# Altium footprint library Robot_2020.PcbLib: 89 footprints (part 4 of 6)
Each footprint in its own frame and in the unit in brackets; x right, y up, seen from the top. Pads: shape width x height; smd on the part's side, far side on the other; paste and mask are expansions set on the pad; w line width, h text height; cw(c..) or ccw(c..) is an arc to the next point about the centre after c.
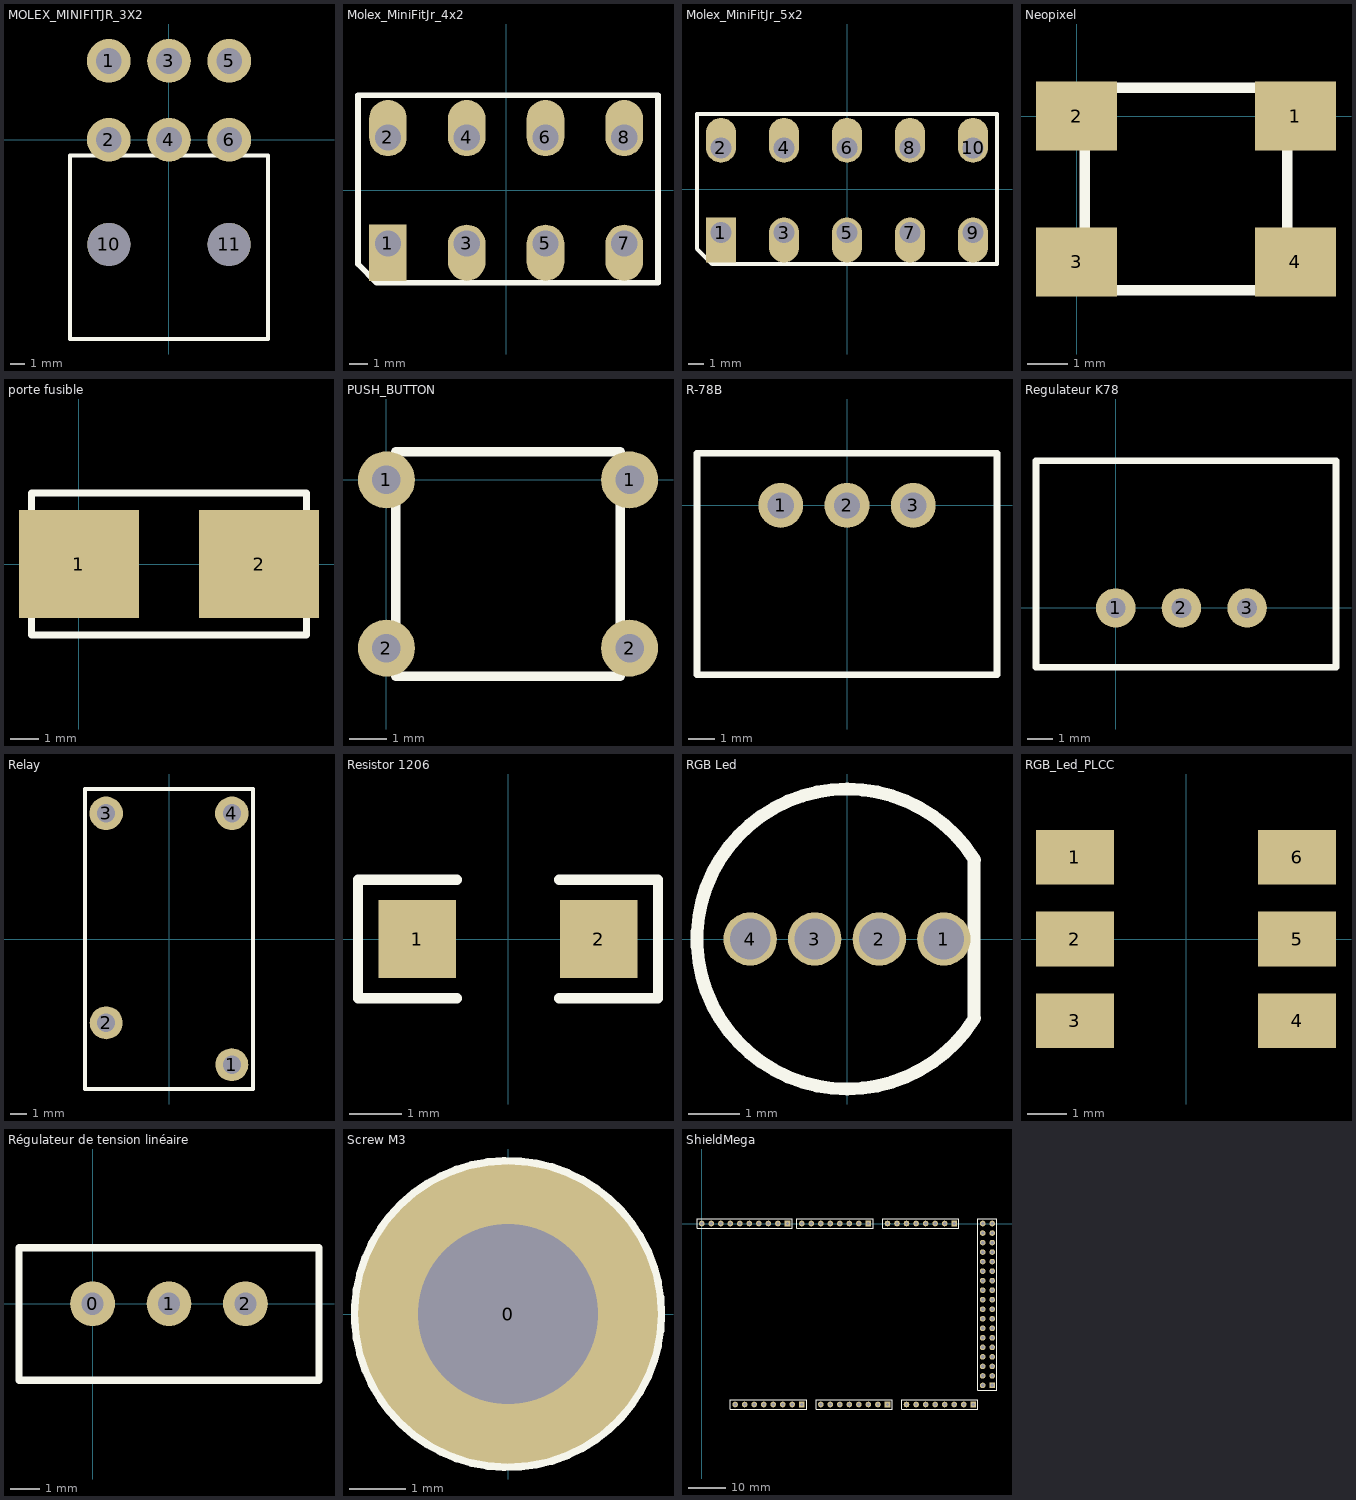
[diagram p3: the footprints below, top view; thin cyan lines are the x and y axes]

## MOLEX_MINIFITJR_3X2 [mm] "MOLEX_MINIFITJR_3X2, 39-30-1060"
height 9.6
pads (8):
  round 3.048 hole 1.8: 1(-4.2,5.5) 2(-4.2,0) 3(0,5.5) 4(0,0) 5(4.2,5.5) 6(4.2,0)
  round 3 hole 3 unplated: 10(-4.2,-7.3) 11(4.2,-7.3)
Top Overlay:
  lines w0.254: -6.9,-13.9 6.9,-13.9 6.9,-1.1 -6.9,-1.1 -6.9,-13.9
3D body "MiniFit_Jr_3x2.stp": height 11.41, standoff -3.59, extent -6.9,-13.9 7.3,6.035

## Molex_MiniFitJr_4x2 [mm] "Connecteur Molex 5x2"
pads (8):
  rect 2x3 hole 1.4 copper offset 0,-0.5: 1(-6.3,-2.825)
  oval 2x3 hole 1.4 copper offset 0,0.5: 2(-6.3,2.825) 4(-2.1,2.825) 6(2.1,2.825) 8(6.3,2.825)
  oval 2x3 hole 1.4 copper offset 0,-0.5: 3(-2.1,-2.825) 5(2.1,-2.825) 7(6.3,-2.825)
Top Overlay:
  lines w0.3: -7.9,-3.925 -6.9,-4.925 8.1,-4.925 8.1,5.075 -7.9,5.075 -7.9,-3.925

## Molex_MiniFitJr_5x2 [mm] "Connecteur Molex 5x2"
pads (10):
  rect 2x3 hole 1.4 copper offset 0,-0.5: 1(-8.4,-2.9)
  oval 2x3 hole 1.4 copper offset 0,0.5: 2(-8.4,2.75) 4(-4.2,2.75) 6(0,2.75) 8(4.2,2.75) 10(8.4,2.75)
  oval 2x3 hole 1.4 copper offset 0,-0.5: 3(-4.2,-2.9) 5(0,-2.9) 7(4.2,-2.9) 9(8.4,-2.9)
Top Overlay:
  lines w0.3: -10,-4 -10,5 10,5 10,-5 -9,-5 -10,-4

## Neopixel [mm]
pads (4):
  rect 2x1.7 smd: 1(5.4,0) 2(0,0) 3(0,-3.6) 4(5.4,-3.6)
Top Overlay:
  lines w0.254: 0.2,-4.3 5.2,-4.3 5.2,0.7 0.7,0.7 0.2,0.2 0.2,-4.3
3D body: height 1.6, standoff 0, extent 0.192,-4.329 5.193,0.672
3D body: height 2, standoff 1, extent 0.693,-3.803 4.693,0.196

## PCBComponent_1 - duplicate [mil]

## porte fusible [mil] "littelfuse"
pads (2):
  rect 167x150 smd: 1(0,0) 2(251,0)
Top Overlay:
  lines w10: -66,-99 317,-99 317,99 -66,99 -66,-99

## PUSH_BUTTON [mil] "FSM4JH"
height 196.85
pads (4):
  round 60 hole 30: 1(0,0) 1(255.91,0) 2(0,-177.17) 2(255.91,-177.17)
Top Overlay:
  lines w10: 9.84,-206.69 9.84,29.53 246.06,29.53 246.06,-206.69 9.84,-206.69
3D body: height 142.13, standoff 122.44, extent 10.33,-205.71 247.05,31
3D body: height 197.24, standoff 142.13, extent 58.81,-157.22 196.6,-19.46
3D body: height 122.44, standoff 0, extent 9.35,-206.69 246.06,30.02

## R-78B [mm]
pads (3):
  round 1.724 hole 1: 1(-2.54,0) 2(0,0) 3(2.54,0)
Top Overlay:
  lines w0.254: -5.75,-6.5 5.75,-6.5 5.75,2 -5.75,2 -5.75,-6.5

## Regulateur K78 [mil] "Regulateur à decoupage RS pro"
pads (3):
  round 60 hole 30: 1(0,0) 2(100,0) 3(200,0)
Top Overlay:
  lines w10: -121.35,-90.55 -121.35,224.41 335.35,224.41 335.35,-90.55 -121.35,-90.55
3D body "Traco_tsr.stp": height 397.64, standoff -161.42, extent -128.63,-78 332,217.28

## Relay [mm] "SPST-NO Relay"
pads (4):
  round 2 hole 1.1: 1(3.81,-7.62) 2(-3.81,-5.08)
  round 2.032 hole 1.1: 3(-3.81,7.62) 4(3.81,7.62)
Top Overlay:
  lines w0.254: -5.093,-9.093 5.093,-9.093 5.093,9.093 -5.093,9.093 -5.093,-9.093
3D body: height 15, standoff 0, extent -5.08,-9.144 5.08,9.144

## Resistor 1206 [mm]
pads (2):
  rect 1.5x1.5 smd: 1(-1.75,0) 2(1.75,0)
Top Overlay:
  lines w0.2: -0.988,-1.143 -2.893,-1.143 -2.893,1.143 -0.988,1.143 ; 0.988,-1.143 2.893,-1.143 2.893,1.143 0.988,1.143
3D body "res1206r.STEP": height 0.55, standoff 0, extent -1.985,-0.949 1.985,0.927

## RGB Led [mm] "RGB Led"
pads (4):
  round 1.05 hole 0.8: 1(1.905,0) 2(0.635,0) 3(-0.635,0) 4(-1.905,0)
Top Overlay:
  lines w0.254: 2.5,-1.534 2.5,1.5 ; 2.507,-1.554 cw(c0,0) 2.507,1.554
3D body "LED_RGB.stp": height 8.65, standoff -27, extent -2.55,-2.45 2.45,2.45

## RGB_Led_PLCC [mm] "RGB Led PLCC format"
height 2.5
pads (6):
  rect 2x1.4 smd: 1(-2.85,2.1) 2(-2.85,0) 3(-2.85,-2.1) 4(2.85,-2.1) 5(2.85,0) 6(2.85,2.1)

## Régulateur de tension linéaire [mil]
height 620.08
pads (3):
  round 60 hole 30: 0(0,0) 1(102.36,0) 2(204.72,0)
Top Overlay:
  lines w10: -98.43,-102.36 303.15,-102.36 ; -98.43,-102.36 303.15,-102.36 ; -98.43,-102.36 -98.43,74.8 303.15,74.8 303.15,-102.36

## Screw M3 [mm] "M3 iso Screw"
height 2.86
pads (1):
  round 5.32 hole 3.2 unplated: 0(0,0)
Top Overlay:
  circle w0.254: c0,0 r2.66

## ShieldMega [mm] "Arduino Mega 2560"
pads (86):
  rect 1.5x1.5 hole 0.9: 0(44.45,0) 8(22.86,0) 21(67.31,0) 59(26.67,-48.26) 67(49.53,-48.26) 75(72.39,-48.26) 79(77.47,-43.18)
  round 1.5 hole 0.9: 1(41.91,0) 2(39.37,0) 3(36.83,0) 4(34.29,0) 5(31.75,0) 6(29.21,0) 7(26.67,0) 9(20.32,0) 10(17.78,0) 11(15.24,0) 12(12.7,0) 13(10.16,0) 14(49.53,0) 15(52.07,0) 16(54.61,0) 17(57.15,0) 18(59.69,0) 19(62.23,0) 20(64.77,0) 22(74.93,-2.54) 23(77.47,-2.54) 24(74.93,-5.08) 25(77.47,-5.08) 26(74.93,-7.62) 27(77.47,-7.62) 28(74.93,-10.16) 29(77.47,-10.16) 30(74.93,-12.7) 31(77.47,-12.7) 32(74.93,-15.24) 33(77.47,-15.24) 34(74.93,-17.78) 35(77.47,-17.78) 36(74.93,-20.32) 37(77.47,-20.32) 38(74.93,-22.86) 39(77.47,-22.86) 40(74.93,-25.4) 41(77.47,-25.4) 42(74.93,-27.94) 43(77.47,-27.94) 44(74.93,-30.48) 45(77.47,-30.48) 46(74.93,-33.02) 47(77.47,-33.02) 48(74.93,-35.56) 49(77.47,-35.56) 50(74.93,-38.1) 51(77.47,-38.1) 52(74.93,-40.64) 53(77.47,-40.64) 54(13.97,-48.26) 55(16.51,-48.26) 56(19.05,-48.26) 57(21.59,-48.26) 58(24.13,-48.26) 60(31.75,-48.26) 61(34.29,-48.26) 62(36.83,-48.26) 63(39.37,-48.26) 64(41.91,-48.26) 65(44.45,-48.26) 66(46.99,-48.26) 68(54.61,-48.26) 69(57.15,-48.26) 70(59.69,-48.26) 71(62.23,-48.26) 72(64.77,-48.26) 73(67.31,-48.26) 74(69.85,-48.26) 76(7.62,0) 77(5.08,0) 78(74.93,-43.18) 80(77.47,0) 81(74.93,0) 82(11.43,-48.26) 83(8.89,-48.26) 84(2.54,0) 85(0,0)
Top Overlay:
  lines w0.2: -1.27,-1.27 24.13,-1.27 24.13,1.27 -1.27,1.27 -1.27,-1.27 ; 7.62,-49.53 7.62,-48.895 7.62,-47.625 7.62,-46.99 27.94,-46.99 27.94,-49.53 7.62,-49.53 ; 25.4,-1.27 45.72,-1.27 45.72,1.27 25.4,1.27 25.4,-1.27 ; 30.48,-49.53 50.8,-49.53 50.8,-46.99 30.48,-46.99 30.48,-49.53 ; 48.26,-1.27 48.26,1.27 68.58,1.27 68.58,-1.27 48.26,-1.27 ; 53.34,-49.53 73.66,-49.53 73.66,-46.99 53.34,-46.99 53.34,-49.53 ; 73.66,-44.45 78.74,-44.45 78.74,1.27 73.66,1.27 73.66,-44.45
3D body "Pin Header 1x8 TH Pitch 2.54mm.stp": height 9.5, standoff -3.2, extent 48.26,-1.27 68.58,1.27
3D body "Pin Header 1x8 TH Pitch 2.54mm.stp": height 9.5, standoff -3.2, extent 25.4,-1.27 45.72,1.27
3D body "Pin Header 1x8 TH Pitch 2.54mm.stp": height 9.5, standoff -3.2, extent 53.34,-49.53 73.66,-46.99
3D body "Pin Header 1x8 TH Pitch 2.54mm.stp": height 9.5, standoff -3.2, extent 30.48,-49.53 50.8,-46.99
3D body "Pin Header 1x8 TH Pitch 2.54mm.stp": height 9.5, standoff -3.2, extent 7.62,-49.53 27.94,-46.99
3D body "Pin Header 1x8 TH Pitch 2.54mm.stp": height 9.5, standoff -3.2, extent 73.66,-44.45 76.2,-24.13
3D body "Pin Header 1x8 TH Pitch 2.54mm.stp": height 9.5, standoff -3.2, extent 76.2,-44.45 78.74,-24.13
3D body "Pin Header 1x10 TH Pitch 2.54mm.stp": height 9.5, standoff -3.2, extent 73.66,-24.13 76.2,1.27
3D body "Pin Header 1x10 TH Pitch 2.54mm.stp": height 9.5, standoff -3.2, extent 76.2,-24.13 78.74,1.27
3D body "Pin Header 1x10 TH Pitch 2.54mm.stp": height 9.5, standoff -3.2, extent -1.27,-1.27 24.13,1.27